# EAGLE library part MCP4901 (library microchip)
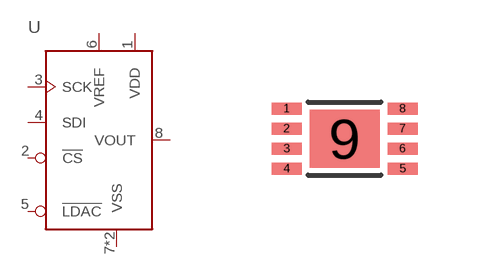
[diagram p0: symbol with the pads of VFDFN-8(DFN8); footprint VFDFN-8(DFN8)]

Designator prefix U

## MCP4901 (DIGIKEY: MCP4901-E/MC-ND; P1I: o)  [VFDFN-8(DFN8)]
1  VDD
2  !CS
3  SCK
4  SDI
5  !LDAC
6  VREF
7  VSS
8  VOUT
9  VSS

## Footprint VFDFN-8(DFN8) (pad centres in mm)
smd 0.75 x 0.3: 1 -1.45,0.75; 2 -1.45,0.25; 3 -1.45,-0.25; 4 -1.45,-0.75; 5 1.45,-0.75; 6 1.45,-0.25; 7 1.45,0.25; 8 1.45,0.75
smd 1.75 x 1.45: 9 0,0